# Altium footprint library PcbLib1.PcbLib: 2 footprints
Each footprint in its own frame and in the unit in brackets; x right, y up, seen from the top. Pads: shape width x height; smd on the part's side, far side on the other; paste and mask are expansions set on the pad; w line width, h text height; cw(c..) or ccw(c..) is an arc to the next point about the centre after c.
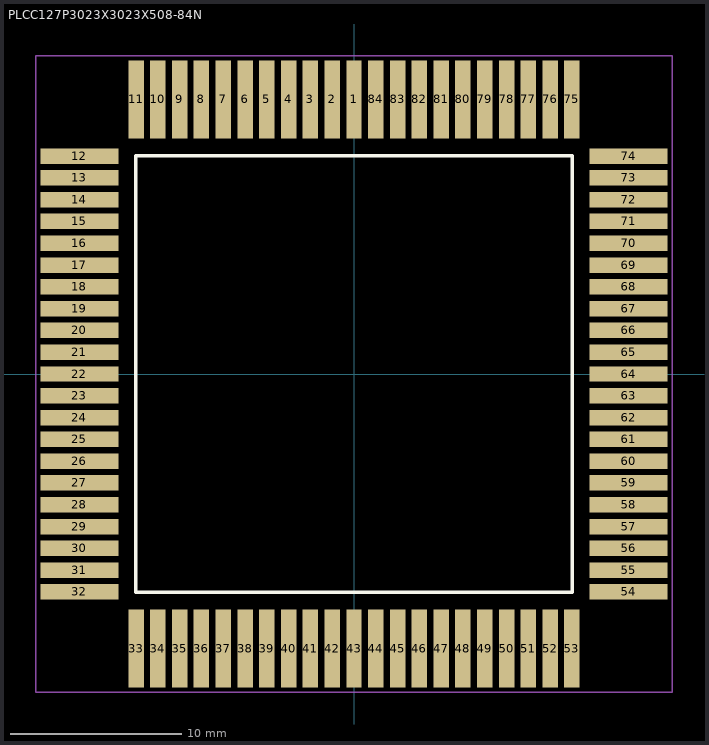
[diagram p0: the footprints below, top view; thin cyan lines are the x and y axes]

## PCBComponent_1 [mm]

## PLCC127P3023X3023X508-84N [mm]
pads (84):
  rect 0.9x4.55 smd: 1(0,16.002) 2(-1.27,16.002) 3(-2.54,16.002) 4(-3.81,16.002) 5(-5.08,16.002) 6(-6.35,16.002) 7(-7.62,16.002) 8(-8.89,16.002) 9(-10.16,16.002) 10(-11.43,16.002) 11(-12.7,16.002) 33(-12.7,-16.002) 34(-11.43,-16.002) 35(-10.16,-16.002) 36(-8.89,-16.002) 37(-7.62,-16.002) 38(-6.35,-16.002) 39(-5.08,-16.002) 40(-3.81,-16.002) 41(-2.54,-16.002) 42(-1.27,-16.002) 43(0,-16.002) 44(1.27,-16.002) 45(2.54,-16.002) 46(3.81,-16.002) 47(5.08,-16.002) 48(6.35,-16.002) 49(7.62,-16.002) 50(8.89,-16.002) 51(10.16,-16.002) 52(11.43,-16.002) 53(12.7,-16.002) 75(12.7,16.002) 76(11.43,16.002) 77(10.16,16.002) 78(8.89,16.002) 79(7.62,16.002) 80(6.35,16.002) 81(5.08,16.002) 82(3.81,16.002) 83(2.54,16.002) 84(1.27,16.002)
  rect 4.55x0.9 smd: 12(-16.002,12.7) 13(-16.002,11.43) 14(-16.002,10.16) 15(-16.002,8.89) 16(-16.002,7.62) 17(-16.002,6.35) 18(-16.002,5.08) 19(-16.002,3.81) 20(-16.002,2.54) 21(-16.002,1.27) 22(-16.002,0) 23(-16.002,-1.27) 24(-16.002,-2.54) 25(-16.002,-3.81) 26(-16.002,-5.08) 27(-16.002,-6.35) 28(-16.002,-7.62) 29(-16.002,-8.89) 30(-16.002,-10.16) 31(-16.002,-11.43) 32(-16.002,-12.7) 54(16.002,-12.7) 55(16.002,-11.43) 56(16.002,-10.16) 57(16.002,-8.89) 58(16.002,-7.62) 59(16.002,-6.35) 60(16.002,-5.08) 61(16.002,-3.81) 62(16.002,-2.54) 63(16.002,-1.27) 64(16.002,0) 65(16.002,1.27) 66(16.002,2.54) 67(16.002,3.81) 68(16.002,5.08) 69(16.002,6.35) 70(16.002,7.62) 71(16.002,8.89) 72(16.002,10.16) 73(16.002,11.43) 74(16.002,12.7)
Top Overlay:
  lines w0.2: -12.731,-12.731 12.731,-12.731 12.731,12.731 -12.731,12.731 -12.731,-12.731
Mechanical 13:
  lines w0.1: -18.542,-18.542 18.542,-18.542 18.542,18.542 -18.542,18.542 -18.542,-18.542
Mechanical 15:
  lines w0.05: -18.542,-18.542 18.542,-18.542 18.542,18.542 -18.542,18.542 -18.542,-18.542